# Altium integrated library Analog Devices Data Converters Analog-to-Digital Converters.IntLib: 2400 symbols (part 252 of 338)
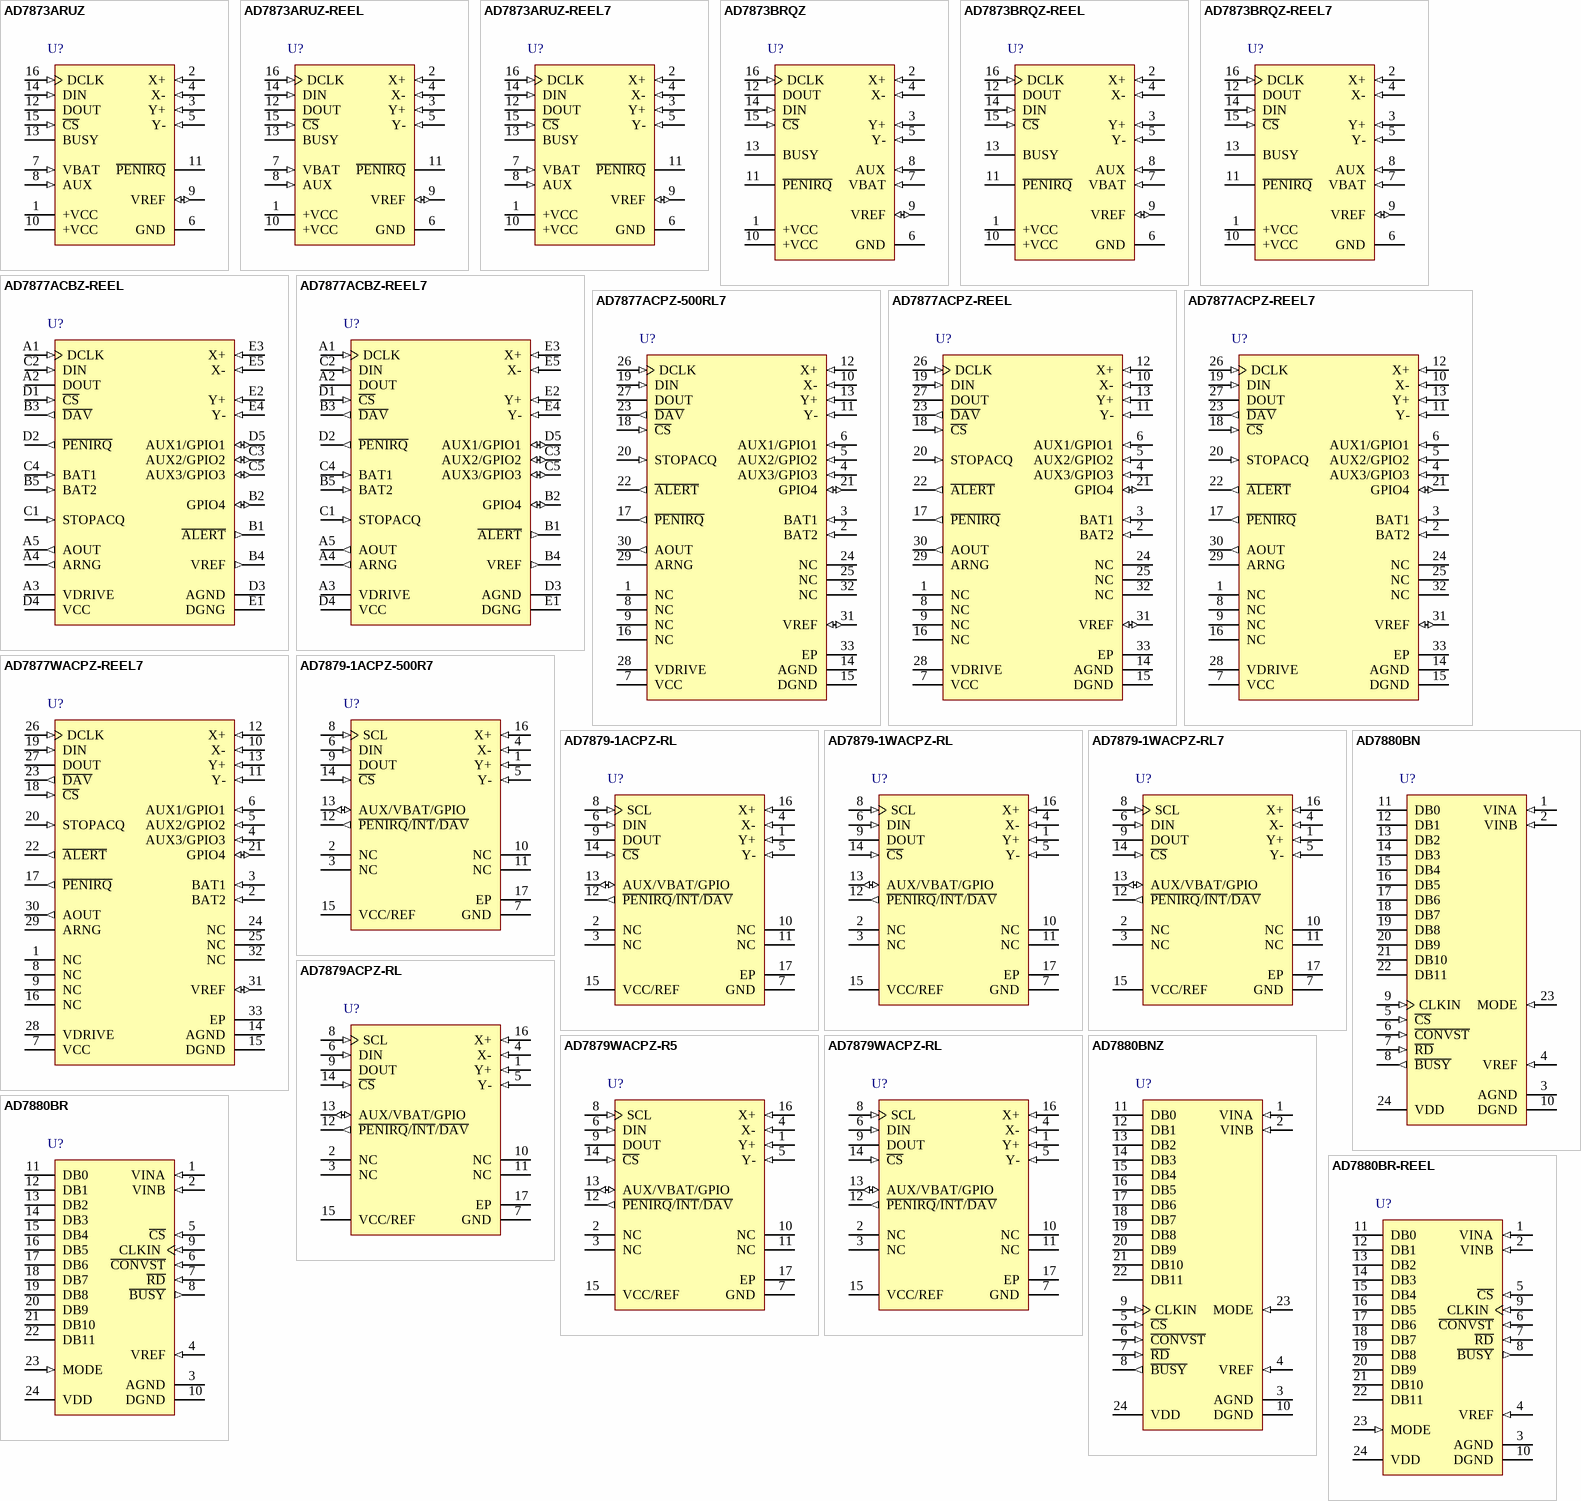
[diagram p391: symbols AD7873ARUZ to AD7880BR-REEL]

## AD7877ACBZ-REEL
designator U?
Touch Screen Controller, 125KSPS, -40 to +85 degC, CB-25, Pb-Free, Reel; Part Number: AD7877; Manufacturer: Analog Devices; Resolution (Bits): 12; Channels: 9; Throughput Rate (SPS): 125K; Interface: Ser; DatasheetVersion: Rev.D; PackageVersion: 081607-A; PackageReference: CB-25; PackageDescription: 25-Ball Wafer Level Chip Scale Package [WLCSP]; RoHS: Y; Packing: Reel; Mounting Technology: Surface Mount; ComponentLink1Description: Manufacturer URL; ComponentLink1URL: http://www.analog.com/en/index.html; ComponentLink2Description: Datasheet; ComponentLink2URL: http://www.analog.com/static/imported-files/data_sheets/AD7877.pdf; ComponentLink3Description: Package Specification; ComponentLink3URL: http://www.analog.com/static/imported-files/packages/PKG_PDF/WLCSP(CB)/CB_25.pdf; ComponentLink4Description: Product URL; ComponentLink4URL: http://www.analog.com/en/analog-to-digital-converters/ad-converters/ad7877/products/product.html
footprint CB-25 (BGA, 25-Leads, Body 2.55x2.77mm, Pitch 0.5mm)
pins: A1 DCLK (in) "External Clock Input. Logic input. DCLK provides the serial clock for accessing data from the part.", A2 DOUT (hiz) "Serial Data Output. Logic output. The conversion result from the AD7877 is provided on this output as a serial data stream. The bits are clocked out on the falling edge of the DCLK input. This output is high impedance when (See Datasheet)", A3 VDRIVE (power) "Logic Power Supply Input. The voltage supplied at this pin determines the operating voltage for the serial interface of the AD7877.", A4 ARNG (out) "When the DAC is in current output mode, a resistor from ARNG to GND sets the output range.", A5 AOUT (out) "Analog Output Voltage or Current from DAC.", B1 ~{ALERT} (out) "Digital Active Low Output. Interrupt output that goes low if a GPIO data bit is set, or if the AUX1, TEMP1, BAT1,or BAT2 measurements are out of range.", B2 GPIO4 (io) "Dedicated General-Purpose Logic Input/Output Pin.", B3 ~{DAV} (out) "Data Available Output. Active low logic output. Asserts low when new data is available in the AD7877 results registers.", B4 VREF (out) "Reference Output for the AD7877. The internal 2.5 V reference is available on this pin for use external to the device. The reference output must be buffered before it is applied elsewhere in a system. To reduce system noise (See Datasheet)", B5 BAT2 (in) "Battery Monitor Input. ADC Input Channel 7.", C1 STOPACQ (in) "Stop Acquisition Pin. A signal applied to this pin can be monitored by the AD7877, so that acquisition of new data by the ADC is halted while the signal is active. Used to reduce the effect of noise from an LCD screen on the (See Datasheet)", C2 DIN (in) "SPI® Serial Data Input. Data to be written to the AD7877 registers are provided on this input and clocked into the register on the rising edge of DCLK.", C3 AUX2/GPIO2 (io) "Auxiliary Analog Input. ADC Input Channel 4. Can be reconfigured as GPIO pin.", C4 BAT1 (in) "Battery Monitor Input. ADC Input Channel 6.", C5 AUX3/GPIO3 (io) "Auxiliary Analog Input. ADC Input Channel 5. Can be reconfigured as GPIO pin.", D1 ~{CS} (in) "Chip Select Input. Active low logic input. This input provides the dual function of initiating conversions on the AD7877 and enabling the serial input/output register.", D2 ~{PENIRQ} (out) "Pen Interrupt. Digital active low output (has a 50 k ohm internal pull-up resistor).", D3 AGND (power) "Analog Ground. Ground reference point for all analog circuitry on the AD7877. All analog input signals and any external reference signal should be referred to this voltage.", D4 VCC (power) "Power Supply Input. The VCC range for the AD7877 is from 2.2 V to 5.25 V.", D5 AUX1/GPIO1 (io) "Auxiliary Analog Input. ADC Input Channel 3. Can be reconfigured as GPIO pin.", E1 DGNG (power) "Digital Ground. Ground reference for all digital circuitry on the AD7877. Refer all digital input signals to this voltage.", E2 Y+ (in) "Touch Screen Position Input. ADC Input Channel 1.", E3 X+ (in) "Touch Screen Position Input. ADC Input Channel 0.", E4 Y- (in) "Touch Screen Position Input. ADC Input Channel 2.", E5 X- (in) "Touch Screen Position Input."

## AD7877ACBZ-REEL7
designator U?
Touch Screen Controller, 125KSPS, -40 to +85 degC, CB-25, Pb-Free, Reel; Part Number: AD7877; Manufacturer: Analog Devices; Resolution (Bits): 12; Channels: 9; Throughput Rate (SPS): 125K; Interface: Ser; DatasheetVersion: Rev.D; PackageVersion: 081607-A; PackageReference: CB-25; PackageDescription: 25-Ball Wafer Level Chip Scale Package [WLCSP]; RoHS: Y; Packing: Reel; Mounting Technology: Surface Mount; ComponentLink1Description: Manufacturer URL; ComponentLink1URL: http://www.analog.com/en/index.html; ComponentLink2Description: Datasheet; ComponentLink2URL: http://www.analog.com/static/imported-files/data_sheets/AD7877.pdf; ComponentLink3Description: Package Specification; ComponentLink3URL: http://www.analog.com/static/imported-files/packages/PKG_PDF/WLCSP(CB)/CB_25.pdf; ComponentLink4Description: Product URL; ComponentLink4URL: http://www.analog.com/en/analog-to-digital-converters/ad-converters/ad7877/products/product.html
footprint CB-25 (BGA, 25-Leads, Body 2.55x2.77mm, Pitch 0.5mm)
pins: A1 DCLK (in) "External Clock Input. Logic input. DCLK provides the serial clock for accessing data from the part.", A2 DOUT (hiz) "Serial Data Output. Logic output. The conversion result from the AD7877 is provided on this output as a serial data stream. The bits are clocked out on the falling edge of the DCLK input. This output is high impedance when (See Datasheet)", A3 VDRIVE (power) "Logic Power Supply Input. The voltage supplied at this pin determines the operating voltage for the serial interface of the AD7877.", A4 ARNG (out) "When the DAC is in current output mode, a resistor from ARNG to GND sets the output range.", A5 AOUT (out) "Analog Output Voltage or Current from DAC.", B1 ~{ALERT} (out) "Digital Active Low Output. Interrupt output that goes low if a GPIO data bit is set, or if the AUX1, TEMP1, BAT1,or BAT2 measurements are out of range.", B2 GPIO4 (io) "Dedicated General-Purpose Logic Input/Output Pin.", B3 ~{DAV} (out) "Data Available Output. Active low logic output. Asserts low when new data is available in the AD7877 results registers.", B4 VREF (out) "Reference Output for the AD7877. The internal 2.5 V reference is available on this pin for use external to the device. The reference output must be buffered before it is applied elsewhere in a system. To reduce system noise (See Datasheet)", B5 BAT2 (in) "Battery Monitor Input. ADC Input Channel 7.", C1 STOPACQ (in) "Stop Acquisition Pin. A signal applied to this pin can be monitored by the AD7877, so that acquisition of new data by the ADC is halted while the signal is active. Used to reduce the effect of noise from an LCD screen on the (See Datasheet)", C2 DIN (in) "SPI® Serial Data Input. Data to be written to the AD7877 registers are provided on this input and clocked into the register on the rising edge of DCLK.", C3 AUX2/GPIO2 (io) "Auxiliary Analog Input. ADC Input Channel 4. Can be reconfigured as GPIO pin.", C4 BAT1 (in) "Battery Monitor Input. ADC Input Channel 6.", C5 AUX3/GPIO3 (io) "Auxiliary Analog Input. ADC Input Channel 5. Can be reconfigured as GPIO pin.", D1 ~{CS} (in) "Chip Select Input. Active low logic input. This input provides the dual function of initiating conversions on the AD7877 and enabling the serial input/output register.", D2 ~{PENIRQ} (out) "Pen Interrupt. Digital active low output (has a 50 k ohm internal pull-up resistor).", D3 AGND (power) "Analog Ground. Ground reference point for all analog circuitry on the AD7877. All analog input signals and any external reference signal should be referred to this voltage.", D4 VCC (power) "Power Supply Input. The VCC range for the AD7877 is from 2.2 V to 5.25 V.", D5 AUX1/GPIO1 (io) "Auxiliary Analog Input. ADC Input Channel 3. Can be reconfigured as GPIO pin.", E1 DGNG (power) "Digital Ground. Ground reference for all digital circuitry on the AD7877. Refer all digital input signals to this voltage.", E2 Y+ (in) "Touch Screen Position Input. ADC Input Channel 1.", E3 X+ (in) "Touch Screen Position Input. ADC Input Channel 0.", E4 Y- (in) "Touch Screen Position Input. ADC Input Channel 2.", E5 X- (in) "Touch Screen Position Input."

## AD7877ACPZ-500RL7
designator U?
Touch Screen Controller, 125KSPS, -40 to +85 degC, CP-32-2, Pb-Free, Reel; Part Number: AD7877; Manufacturer: Analog Devices; Resolution (Bits): 12; Channels: 9; Throughput Rate (SPS): 125K; Interface: Ser; DatasheetVersion: Rev.D; PackageVersion: Jan-2005; PackageReference: CP-32-2; PackageDescription: 32-Lead Lead Frame Chip Scale Package [LFCSP_VQ] 5 x 5 mm Body, Very Thin Quad; RoHS: Y; Packing: Reel; Mounting Technology: Surface Mount; Code_JEDEC: MO-220-VHHD-2; ComponentLink1Description: Manufacturer URL; ComponentLink1URL: http://www.analog.com/en/index.html; ComponentLink2Description: Datasheet; ComponentLink2URL: http://www.analog.com/static/imported-files/data_sheets/AD7877.pdf; ComponentLink3Description: Package Specification; ComponentLink3URL: http://www.analog.com/static/imported-files/packages/414143737956480539664569CP_32_2.pdf; ComponentLink4Description: Product URL; ComponentLink4URL: http://www.analog.com/en/analog-to-digital-converters/ad-converters/ad7877/products/product.html
footprint CP-32-2_N (QFN, 32-Leads, Body 5x5mm, Pitch 0.5mm, Thermal Pad 3.1x3.1mm, IPC Medium Density)
footprint CP-32-2_L (QFN, 32-Leads, Body 5x5mm, Pitch 0.5mm, Thermal Pad 3.1x3.1mm, IPC High Density)
footprint CP-32-2_M (QFN, 32-Leads, Body 5x5mm, Pitch 0.5mm, Thermal Pad 3.1x3.1mm, IPC Low Density)
pins: 1 NC "No Connect.", 2 BAT2 (in) "Battery Monitor Input. ADC Input Channel 7.", 3 BAT1 (in) "Battery Monitor Input. ADC Input Channel 6.", 4 AUX3/GPIO3 (in) "Auxiliary Analog Input. ADC Input Channel 5. Can be reconfigured as GPIO pin.", 5 AUX2/GPIO2 (in) "Auxiliary Analog Input. ADC Input Channel 4. Can be reconfigured as GPIO pin.", 6 AUX1/GPIO1 (in) "Auxiliary Analog Input. ADC Input Channel 3. Can be reconfigured as GPIO pin.", 7 VCC (power) "Power Supply Input. The VCC range for the AD7877 is from 2.2 V to 5.25 V.", 8 NC "No Connect.", 9 NC "No Connect.", 10 X- (in) "Touch Screen Position Input.", 11 Y- (in) "Touch Screen Position Input. ADC Input Channel 2.", 12 X+ (in) "Touch Screen Position Input. ADC Input Channel 0.", 13 Y+ (in) "Touch Screen Position Input. ADC Input Channel 1.", 14 AGND (power) "Analog Ground. Ground reference point for all analog circuitry on the AD7877. All analog input signals and any external reference signal should be referred to this voltage.", 15 DGND (power) "Digital Ground. Ground reference for all digital circuitry on the AD7877. Refer all digital input signals to this voltage.", 16 NC "No Connect.", 17 ~{PENIRQ} (out) "Pen Interrupt. Digital active low output (has a 50 k ohm internal pull-up resistor).", 18 ~{CS} (in) "Chip Select Input. Active low logic input. This input provides the dual function of initiating conversions on the AD7877 and enabling the serial input/output register.", 19 DIN (in) "SPI® Serial Data Input. Data to be written to the AD7877 registers are provided on this input and clocked into the register on the rising edge of DCLK.", 20 STOPACQ (in) "Stop Acquisition Pin. A signal applied to this pin can be monitored by the AD7877, so that acquisition of new data by the ADC is halted while the signal is active. Used to reduce the effect of noise from an LCD screen on the (See Datasheet)", 21 GPIO4 (io) "Dedicated General-Purpose Logic Input/Output Pin.", 22 ~{ALERT} (out) "Digital Active Low Output. Interrupt output that goes low if a GPIO data bit is set, or if the AUX1, TEMP1, BAT1, or BAT2 measurements are out of range.", 23 ~{DAV} (out) "Data Available Output. Active low logic output. Asserts low when new data is available in the AD7877 results registers.", 24 NC "No Connect.", 25 NC "No Connect.", 26 DCLK (in) "External Clock Input. Logic input. DCLK provides the serial clock for accessing data from the part.", 27 DOUT (hiz) "Serial Data Output. Logic output. The conversion result from the AD7877 is provided on this output as a serial data stream. The bits are clocked out on the falling edge of the DCLK input. This output is high impedance when (See Datasheet)", 28 VDRIVE (power) "Logic Power Supply Input. The voltage supplied at this pin determines the operating voltage for the serial interface of the AD7877.", 29 ARNG "When the DAC is in current output mode, a resistor from ARNG to GND sets the output range.", 30 AOUT (out) "Analog Output Voltage or Current from DAC.", 31 VREF (io) "Reference Output for the AD7877. The internal 2.5 V reference is available on this pin for use external to the device. The reference output must be buffered before it is applied elsewhere in a system. To reduce system noise (See Datasheet)", 32 NC "No Connect.", 33 EP (power) "Exposed Paddle."